# Altium integrated library Клемники.IntLib: 8 symbols
Pins are listed as number, name and electrical type; pins without a type are passive.

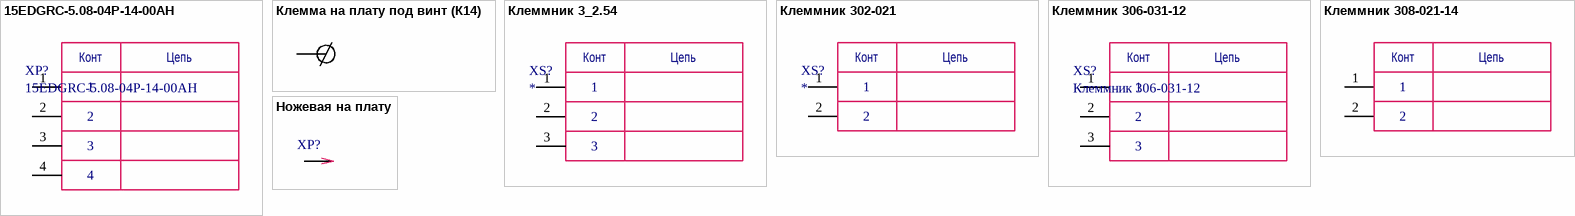
[diagram p0: symbols 15EDGRC-5.08-04P-14-00AH to Ножевая на плату]

## 15EDGRC-5.08-04P-14-00AH
designator XP?
footprint 15EDGRC-5.08-04P-14-00AH
pins: 1, 2, 3, 4
text: Конт; Цепь

## Клемма на плату под винт (К14)
designator XT?, comment Клемма на плату под винт (К14), M3,5*6Китай  (value not drawn)
Manufacturer: Китай; Rem: *; Package: *; Value: *; Tolerance: *; Power/Voltage: *; TKE: *; ManufacturerPartNumber: Клемма на плату под винт (К14), M3,5*6; Quantity: *; Примечание: *; URL: https://www.danomsk.ru/shop/7-kommutatsiya/121-razemy/313-kontrolnye-gnezda-shtyri-krokodily/119672-klemma-na-platu-pod-vint-k14-m3-5-6-kitay/
footprint Клемма винтовая К14
pins: 1

## Клеммник 3_2.54
designator XS?
Клеммник 3_2.54
footprint 3x2_54
pins: 1, 2, 3
text: Конт; Цепь

## Клеммник 302-021
designator XS?
302-021-xx
footprint 301-012
pins: 1, 2
text: Конт; Цепь

## Клеммник 306-031-12
designator XS?
footprint 306-03 1-1 2 _5.0x3
pins: 1, 2, 3
text: Конт; Цепь

## Клеммник 308-021-14
designator XS?, comment DG308-2.54-02P-14-00A(H)*  (value not drawn)
Rem: *; Package: *; Value: *; Tolerance: *; Power/Voltage: *; TKE: *; ManufacturerPartNumber: DG308-2.54-02P-14-00A(H); Manufacturer: *; Quantity: *; Примечание: *
footprint 308-021-14_2.54
pins: 1, 2
text: Конт; Цепь

## Ножевая на плату
designator XP?, comment **  (value not drawn)
Ножевая на плату; Rem: *; Package: *; Value: *; Tolerance: *; Power/Voltage: *; TKE: *; ManufacturerPartNumber: *; Manufacturer: *; Quantity: *; Примечание: *
footprint Клемма ножевая на плату
pins: 1

## РЫБА_1
designator X?, comment **  (value not drawn)
Rem: *; Package: *; Value: *; Tolerance: *; Power/Voltage: *; TKE: *; ManufacturerPartNumber: *; Manufacturer: *; Quantity: *; Примечание: *